# Altium integrated library CAP 1210.IntLib: 4 symbols
Pins are listed as number, name and electrical type; pins without a type are passive.

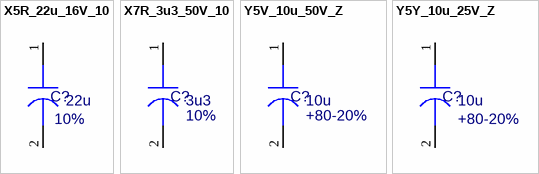
[diagram p0: symbols X5R_22u_16V_10 to Y5Y_10u_25V_Z]

## X5R_22u_16V_10
designator C?, comment value 22u  Tolerance: 10%  (hidden comment: AWT25-500040)
Capacitor, 22uF 16V; ECAD_Revision: 3; Librarian: UK; PartNumber: AWT25-500040; HelpURL: K:\ACCELEDA\PDF Spec Files\CAPS\GRM32ER61C226KE20.PDF; Item: *; Voltage: 16V
simulation model CAP (Capacitor)
footprint C1210 (Rev. 2)
pins: 1, 2

## X7R_3u3_50V_10
designator C?, comment value 3u3  Tolerance: 10%  (hidden comment: AWT25-500041)
Capacitor, 3.3uF 50V; ECAD_Revision: 3; Librarian: UK; PartNumber: AWT25-500041; HelpURL: K:\ACCELEDA\PDF Spec Files\CAPS\GRM32DR71H335KA88.PDF; Item: *; Voltage: 50V
simulation model CAP (Capacitor)
footprint C1210 (Rev. 2)
pins: 1, 2

## Y5V_10u_50V_Z
designator C?, comment value 10u  Tolerance: +80-20%  (hidden comment: AWT25-500065)
Capacitor, 10uF 50V; ECAD_Revision: 1; Librarian: US; PartNumber: AWT25-500065; HelpURL: K:\ACCELEDA\PDF Spec Files\CAPS\ECJ Series.PDF; Item: *; Voltage: 50V
simulation model CAP (Capacitor)
footprint C1210 (Rev. 2)
pins: 1, 2

## Y5Y_10u_25V_Z
designator C?, comment value 10u  Tolerance: +80-20%  (hidden comment: CXD10U00Z025AX)
Capacitor, 10uF 25V; ECAD_Revision: 2; Librarian: UK; PartNumber: CXD10U00Z025AX; HelpURL: *; Item: *; Voltage: 25V
simulation model CAP (Capacitor)
footprint C1210 (Rev. 2)
pins: 1, 2